# Altium schematic symbol library SCH - LCD - NEWHAVEN NHD-0440WH-ATFH-JT.SchLib: 1 symbol
Pins are listed as number, name and electrical type; pins without a type are passive.

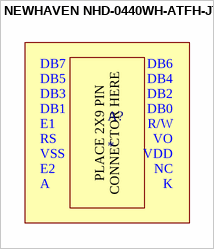
[diagram p0: symbol NEWHAVEN NHD-0440WH-ATFH-JT]

## NEWHAVEN NHD-0440WH-ATFH-JT
designator A?
text: DB7; DB6; DB5; DB4; DB3; DB2; DB1; DB0; E1; PLACE 2X9 PIN; CONNECTOR HERE; R/W; RS; VO; VSS; VDD; E2; NC; A; K